# Altium footprint library LM2576_Buck_Converter_pcblibrary.PcbLib: 7 footprints
Each footprint in its own frame and in the unit in brackets; x right, y up, seen from the top. Pads: shape width x height; smd on the part's side, far side on the other; paste and mask are expansions set on the pad; w line width, h text height; cw(c..) or ccw(c..) is an arc to the next point about the centre after c.
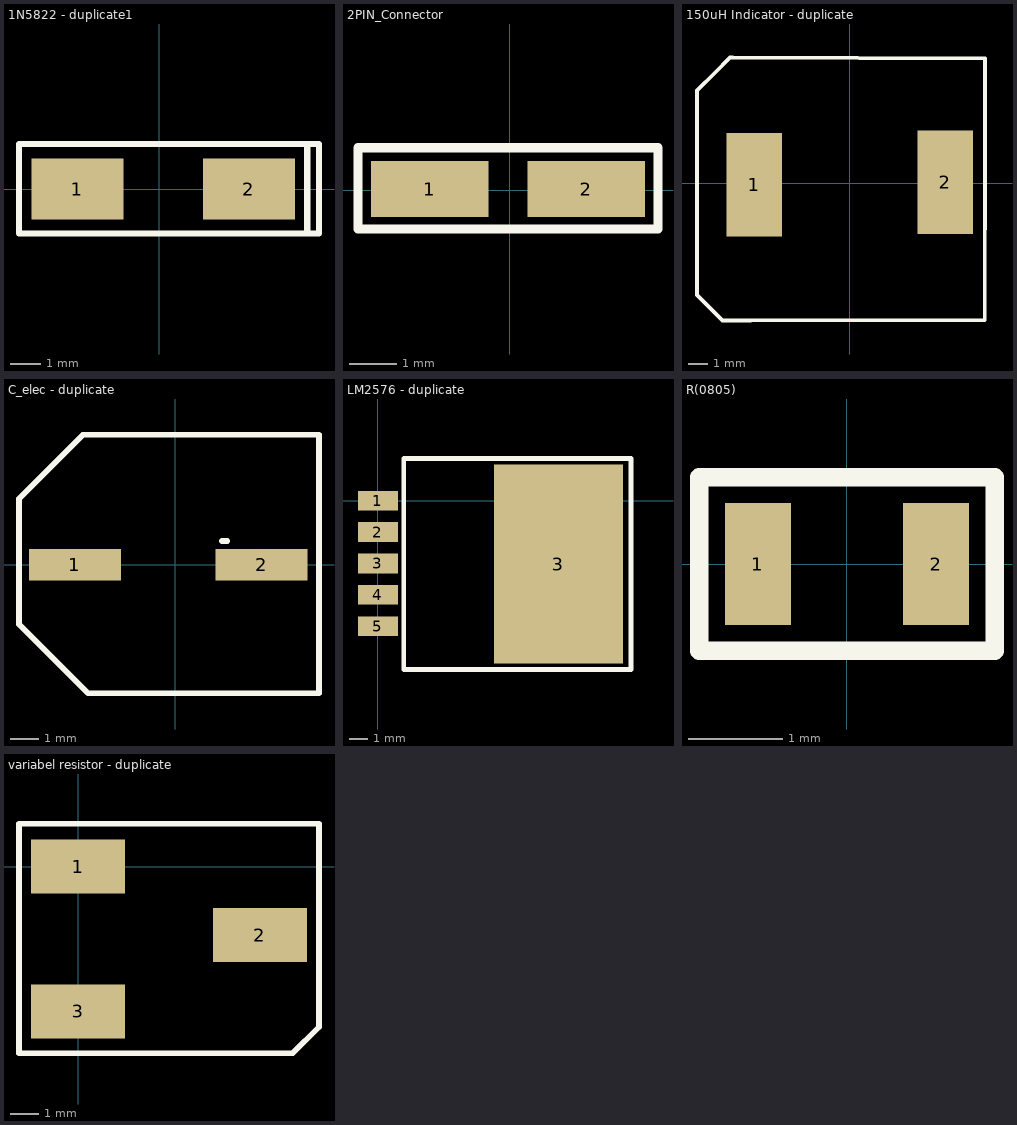
[diagram p0: the footprints below, top view; thin cyan lines are the x and y axes]

## 1N5822 - duplicate1 [mm]
pads (2):
  rect 3x2 smd: 1(-2.667,0) 2(2.921,0)
Top Overlay:
  lines w0.2: -4.572,-1.447 4.826,-1.447 5.207,-1.447 ; -4.572,-1.397 -4.572,1.397 ; -4.572,1.472 4.826,1.472 5.207,1.472 5.207,-1.397 ; 4.826,-1.397 4.826,1.397
3D body "User Library-DO-214AC SMA.STEP": height 2.42, standoff 0.01, extent -2.475,-1.3 2.725,1.3

## 2PIN_Connector [mm]
pads (2):
  rect 2.5x1.2 smd: 1(-1.7,0.025) 2(1.625,0.025)
Top Overlay:
  lines w0.2: -3.225,-0.825 3.15,-0.825 3.15,0.9 -3.225,0.9 -3.225,-0.825
3D body "User Library-RM127_2pin_Header.STEP": height 4.51, standoff 0.01, extent -2.775,-0.65 2.725,0.62

## 150uH Indicator - duplicate [mm]
pads (2):
  rect 2.9x5.4 smd: 1(-4.987,-0.075) 2(4.988,0.075)
Top Overlay:
  lines w0.2: 7.05,-7.126 -5.175,-7.15 -6.65,-7.15 -7.975,-5.825 -7.975,4.85 -7.05,5.775 -6.25,6.575 -6.128,6.575 7.05,6.525 ; 7.05,-7.075 7.063,2.2 7.063,6.525
3D body "pm127sh-330m-rc.stp": height 7.51, standoff 0.01, extent -6.275,-6.625 6.225,5.875

## C_elec - duplicate [mm]
pads (2):
  rect 3.2x1.1 smd: 1(-3.5,0) 2(3,0)
Top Overlay:
  lines w0.2: 1.625,0.825 1.8,0.825 ; -5.45,-2.075 -5.45,2.3 -3.225,4.525 5,4.525 5,-4.475 -3.05,-4.475 -5.45,-2.075
3D body "User Library-SMD 8x10.STEP": height 8.51, standoff 0.01, extent -5.1,-4.15 4.6,4.15

## LM2576 - duplicate [mm]
pads (6):
  rect 2.16x1.07 smd: 1(0,0) 2(0,-1.7) 3(0,-3.4) 4(0,-5.1) 5(0,-6.8)
  rect 7x10.8 smd: 3(9.779,-3.429)
Top Overlay:
  lines w0.254: 1.397,-9.144 13.716,-9.144 13.716,2.286 1.397,2.286 1.397,-9.144
3D body "User Library-TO-263BA-1.STEP": height 4.38, standoff 0, extent -0.8,-8.573 13.246,1.651

## R(0805) [mm]
pads (2):
  rect 0.7x1.3 smd: 1(-0.95,0) 2(0.95,0)
Top Overlay:
  lines w0.2: -1.575,-0.925 1.575,-0.925 1.575,0.925 -1.575,0.925 -1.575,-0.925
3D body "User Library-CR2012-0805.step": height 0.61, standoff 0.01, extent -1,-0.625 1,0.625

## variabel resistor - duplicate [mm]
pads (3):
  rect 3.3x1.9 smd: 1(0,0) 2(6.375,-2.4) 3(0,-5.08)
Top Overlay:
  lines w0.2: -2.075,-6.55 -2.075,1.5 8.45,1.5 8.45,-5.625 7.525,-6.55 -2.075,-6.55
3D body "3361p-1-103glf.stp": height 5.21, standoff -0.02, extent -0.846,-5.861 7.688,0.845